# EAGLE library part HX711 (library programmable-air-components)
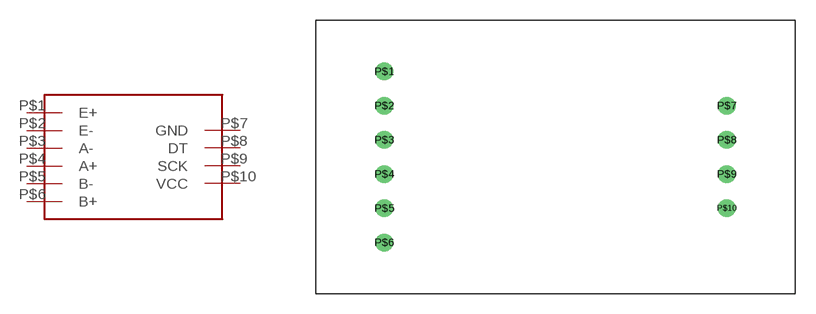
[diagram p0: symbol with the pads of HX711; footprint HX711]

Designator prefix -

## HX711  [HX711]
P$1  E+
P$2  E-
P$3  A-
P$4  A+
P$5  B-
P$6  B+
P$7  GND
P$8  DT
P$9  SCK
P$10  VCC

## Footprint HX711 (pad centres in mm)
drill 0.8: P$1 -12.7,6.35; P$2 -12.7,3.81; P$3 -12.7,1.27; P$4 -12.7,-1.27; P$5 -12.7,-3.81; P$6 -12.7,-6.35; P$7 12.7,3.81; P$8 12.7,1.27; P$9 12.7,-1.27; P$10 12.7,-3.81